# Altium integrated library PIC16F15313_I_RF.IntLib: 1 symbol
Pins are listed as number, name and electrical type; pins without a type are passive.

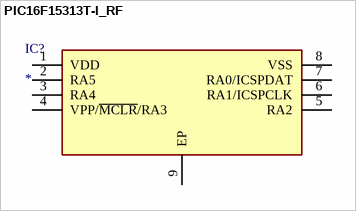
[diagram p0: symbol PIC16F15313T-I_RF]

## PIC16F15313T-I_RF
designator IC?
Integrated Circuit; Manufacturer_Name: Microchip; Manufacturer_Part_Number: PIC16F15313T-I/RF; Datasheet Link: http://www.microchip.com/mymicrochip/filehandler.aspx?ddocname=en597669; Height: 0.55mm; Arrow Part Number: PIC16F15313T-I/RF; Arrow Price/Stock: https://www.arrow.com/en/products/pic16f15313t-irf/microchip-technology; Mouser Part Number: 579-PIC16F15313TI/RF; Mouser Price/Stock: https://www.mouser.co.uk/ProductDetail/Microchip-Technology/PIC16F15313T-I-RF?qs=Mv7BduZupUgofv2n07LaEw%3D%3D
footprint SON65P300X300X55-9N
pins: 1 VDD, 2 RA5, 3 RA4, 4 VPP/~{MCLR}/RA3, 5 RA2, 6 RA1/ICSPCLK, 7 RA0/ICSPDAT, 8 VSS, 9 EP